# Altium schematic symbol library module-rf.SchLib: 6 symbols
Pins are listed as number, name and electrical type; pins without a type are passive.

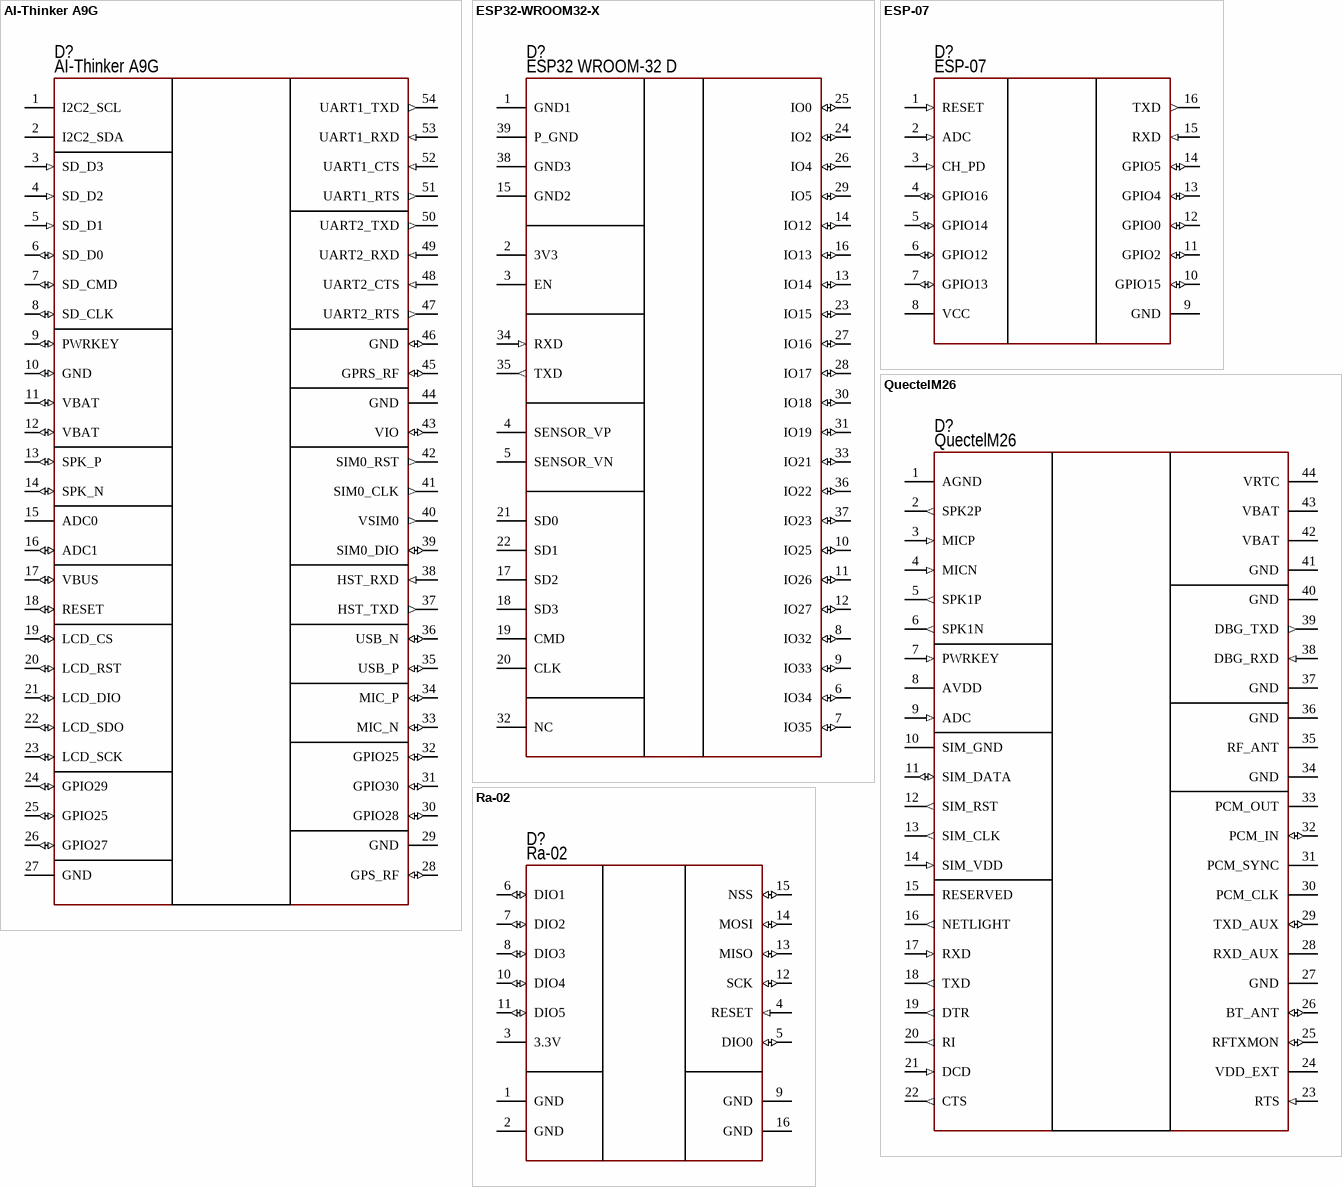
[diagram p0: symbols AI-Thinker A9G to Ra-02]

## AI-Thinker A9G
designator D?  PartNumber: AI-Thinker A9G
GSM/GPS; Manufacturer: AI_Thinker; ValueManufacturerPartNumber: GSM/GPS module, 802.11 b/g/n, 32 bit, SDIO/SPI/UART, -40...+85°C, 21x16mm; Core: 32 bit; TypeInterface: SDIO/SPI/UART; TypeStandart: 802.11 b/g/n; Package: 21x16mm; ComponentType: GSM/GPS module; Temperature: -40...+85°C
footprint MOD: AI-THINKER A9
pins: 1 I2C2_SCL (power), 2 I2C2_SDA (power), 3 SD_D3 (in), 4 SD_D2 (in), 5 SD_D1 (in), 6 SD_D0 (io), 7 SD_CMD (io), 8 SD_CLK (io), 9 PWRKEY (io), 10 GND (io), 11 VBAT (io), 12 VBAT (io), 13 SPK_P (io), 14 SPK_N (io), 15 ADC0 (power), 16 ADC1 (io), 17 VBUS (io), 18 RESET (io), 19 LCD_CS (io), 20 LCD_RST (io), 21 LCD_DIO (io), 22 LCD_SDO (io), 23 LCD_SCK (io), 24 GPIO29 (io), 25 GPIO25 (io), 26 GPIO27 (io), 27 GND (power), 28 GPS_RF (io), 29 GND (power), 30 GPIO28 (io), 31 GPIO30 (io), 32 GPIO25 (io), 33 MIC_N (io), 34 MIC_P (io), 35 USB_P (io), 36 USB_N (io), 37 HST_TXD (out), 38 HST_RXD (in), 39 SIM0_DIO (io), 40 VSIM0 (out), 41 SIM0_CLK (out), 42 SIM0_RST (out), 43 VIO (io), 44 GND (power), 45 GPRS_RF (io), 46 GND (io), 47 UART2_RTS (out), 48 UART2_CTS (in), 49 UART2_RXD (in), 50 UART2_TXD (out), 51 UART1_RTS (out), 52 UART1_CTS (in), 53 UART1_RXD (in), 54 UART1_TXD (out)

## ESP32-WROOM32-X
designator D?  PartNumber: ESP32 WROOM-32 D
Wi-Fi; Manufacturer: Espressif Systems; ValueManufacturerPartNumber: Wi-Fi module, WiFi 802.11 b/g/n (802.11n up to 150 Mbps) / Bluetooth v4.2 BR/EDR and BLE specification, 32 bit, SD card, UART, SPI, SDIO, I2C, LED PWM, Motor PWM, I2S, IR, pulse counter, GPIO, capacitive touch sensor, ADC, DAC, -40...+85°C, 18x25.5x3.1; Core: 32 bit; TypeInterface: SD card, UART, SPI, SDIO, I2C, LED PWM, Motor PWM, I2S, IR, pulse counter, GPIO, capacitive touch sensor, ADC, DAC; TypeStandart: WiFi 802.11 b/g/n (802.11n up to 150 Mbps) / Bluetooth v4.2 BR/EDR and BLE specification; HelpURL: https://www.espressif.com/sites/default/files/documentation/esp32-wroom-32d_esp32-wroom-32u_datasheet_en.pdf; Package: 18x25.5x3.1; ComponentType: Wi-Fi module; Temperature: -40...+85°C
footprint MOD: ESP32-WROOM32-D
footprint MOD: ESP32-WROOM32-U
pins: 1 GND1 (power), 2 3V3 (power), 3 EN, 4 SENSOR_VP, 5 SENSOR_VN, 6 IO34 (io), 7 IO35 (io), 8 IO32 (io), 9 IO33 (io), 10 IO25 (io), 11 IO26 (io), 12 IO27 (io), 13 IO14 (io), 14 IO12 (io), 15 GND2 (power), 16 IO13 (io), 17 SD2, 18 SD3, 19 CMD, 20 CLK, 21 SD0, 22 SD1, 23 IO15 (io), 24 IO2 (io), 25 IO0 (io), 26 IO4 (io), 27 IO16 (io), 28 IO17 (io), 29 IO5 (io), 30 IO18 (io), 31 IO19 (io), 32 NC, 33 IO21 (io), 34 RXD (in), 35 TXD (out), 36 IO22 (io), 37 IO23 (io), 38 GND3 (power), 39 P_GND (power)

## ESP-07
designator D?  PartNumber: ESP-07
Wi-Fi; Manufacturer: Espressif Systems; ValueManufacturerPartNumber: Wi-Fi module, 802.11 b/g/n, 8 bit, SDIO/SPI/UART, -40...+85°C, 21x16mm; Core: 8 bit; TypeInterface: SDIO/SPI/UART; TypeStandart: 802.11 b/g/n; HelpURL: https://www.chipdip.ru/product/esp-07; Package: 21x16mm; ComponentType: Wi-Fi module; Temperature: -40...+85°C
footprint MOD: ESP-07
pins: 1 RESET (in), 2 ADC (in), 3 CH_PD (in), 4 GPIO16 (io), 5 GPIO14 (io), 6 GPIO12 (io), 7 GPIO13 (io), 8 VCC (power), 9 GND (power), 10 GPIO15 (io), 11 GPIO2 (io), 12 GPIO0 (io), 13 GPIO4 (io), 14 GPIO5 (io), 15 RXD (in), 16 TXD (out)

## QuectelM26
designator D?  PartNumber: QuectelM26
GSM; Manufacturer: Quectel; ValueManufacturerPartNumber: GSM/GPRS module, 802.11 b/g/n, 32 bit, SDIO/SPI/UART, -40...+85°C, 21x16mm; Core: 32 bit; TypeInterface: SDIO/SPI/UART; TypeStandart: 802.11 b/g/n; Package: 21x16mm; ComponentType: GSM/GPRS module; Temperature: -40...+85°C
footprint MOD: QuectelM26
pins: 1 AGND, 2 SPK2P (out), 3 MICP (in), 4 MICN (in), 5 SPK1P (out), 6 SPK1N (out), 7 PWRKEY (in), 8 AVDD (power), 9 ADC (in), 10 SIM_GND, 11 SIM_DATA (io), 12 SIM_RST (out), 13 SIM_CLK (out), 14 SIM_VDD (in), 15 RESERVED, 16 NETLIGHT (out), 17 RXD (in), 18 TXD (out), 19 DTR (out), 20 RI (out), 21 DCD (in), 22 CTS (out), 23 RTS (in), 24 VDD_EXT (power), 25 RFTXMON (io), 26 BT_ANT (io), 27 GND, 28 RXD_AUX (power), 29 TXD_AUX (io), 30 PCM_CLK, 31 PCM_SYNC, 32 PCM_IN (io), 33 PCM_OUT, 34 GND (power), 35 RF_ANT (power), 36 GND, 37 GND, 38 DBG_RXD (in), 39 DBG_TXD (out), 40 GND (power), 41 GND, 42 VBAT (power), 43 VBAT (power), 44 VRTC (power)

## Ra-02
designator D?  PartNumber: Ra-02
LoRa module; Manufacturer: Ai-Thinker; TypeInterface: SPI; TypeStandart: 410-525 MHz; HelpURL: https://lcsc.com/product-detail/Wireless-Modules_Ai-Thinker-Ra-02_C90039.html; Package: 17x16mm; ComponentType: LoRa module; ValueManufacturerPartNumber: =ComponentType+', '+TypeStandart+', '+Core+', '+TypeInterface+', '+Temperature+', '+Package; Temperature: -40...+90°C
footprint MOD: RA-02
pins: 1 GND, 2 GND, 3 3.3V (power), 4 RESET (in), 5 DIO0 (io), 6 DIO1 (io), 7 DIO2 (io), 8 DIO3 (io), 9 GND (power), 10 DIO4 (io), 11 DIO5 (io), 12 SCK (io), 13 MISO (io), 14 MOSI (io), 15 NSS (io), 16 GND

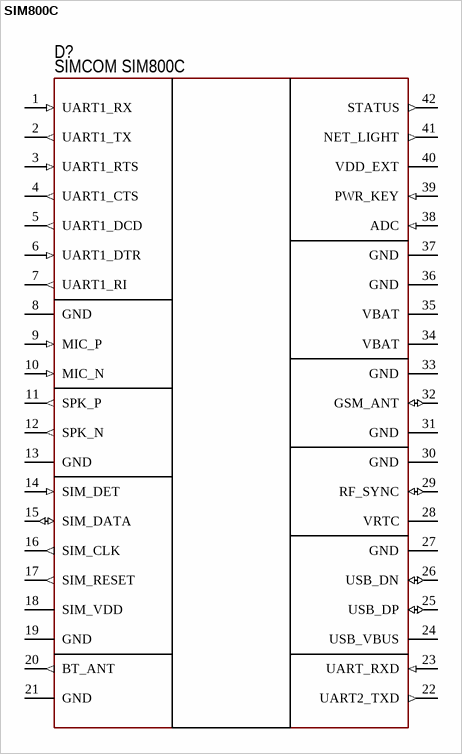
[diagram p1: symbol SIM800C]

## SIM800C
designator D?  PartNumber: SIMCOM SIM800C
GSM/GPRS; Manufacturer: SIMCOM; ValueManufacturerPartNumber: GSM/GPRS module, 802.11 b/g/n, 32 bit, SDIO/SPI/UART, -40...+85°C, 21x16mm; Core: 32 bit; TypeInterface: SDIO/SPI/UART; TypeStandart: 802.11 b/g/n; Package: 21x16mm; ComponentType: GSM/GPRS module; Temperature: -40...+85°C
footprint MOD: SIM800C
pins: 1 UART1_RX (in), 2 UART1_TX (out), 3 UART1_RTS (in), 4 UART1_CTS (out), 5 UART1_DCD (out), 6 UART1_DTR (in), 7 UART1_RI (out), 8 GND, 9 MIC_P (in), 10 MIC_N (in), 11 SPK_P (out), 12 SPK_N (out), 13 GND, 14 SIM_DET (in), 15 SIM_DATA (io), 16 SIM_CLK (out), 17 SIM_RESET (out), 18 SIM_VDD (power), 19 GND, 20 BT_ANT (out), 21 GND, 22 UART2_TXD (out), 23 UART_RXD (in), 24 USB_VBUS (power), 25 USB_DP (io), 26 USB_DN (io), 27 GND, 28 VRTC (power), 29 RF_SYNC (io), 30 GND, 31 GND, 32 GSM_ANT (io), 33 GND, 34 VBAT (power), 35 VBAT (power), 36 GND, 37 GND, 38 ADC (in), 39 PWR_KEY (in), 40 VDD_EXT (power), 41 NET_LIGHT (out), 42 STATUS (out)